# Altium footprint library lib_mechanical.PcbLib: 12 footprints
Each footprint in its own frame and in the unit in brackets; x right, y up, seen from the top. Pads: shape width x height; smd on the part's side, far side on the other; paste and mask are expansions set on the pad; w line width, h text height; cw(c..) or ccw(c..) is an arc to the next point about the centre after c.
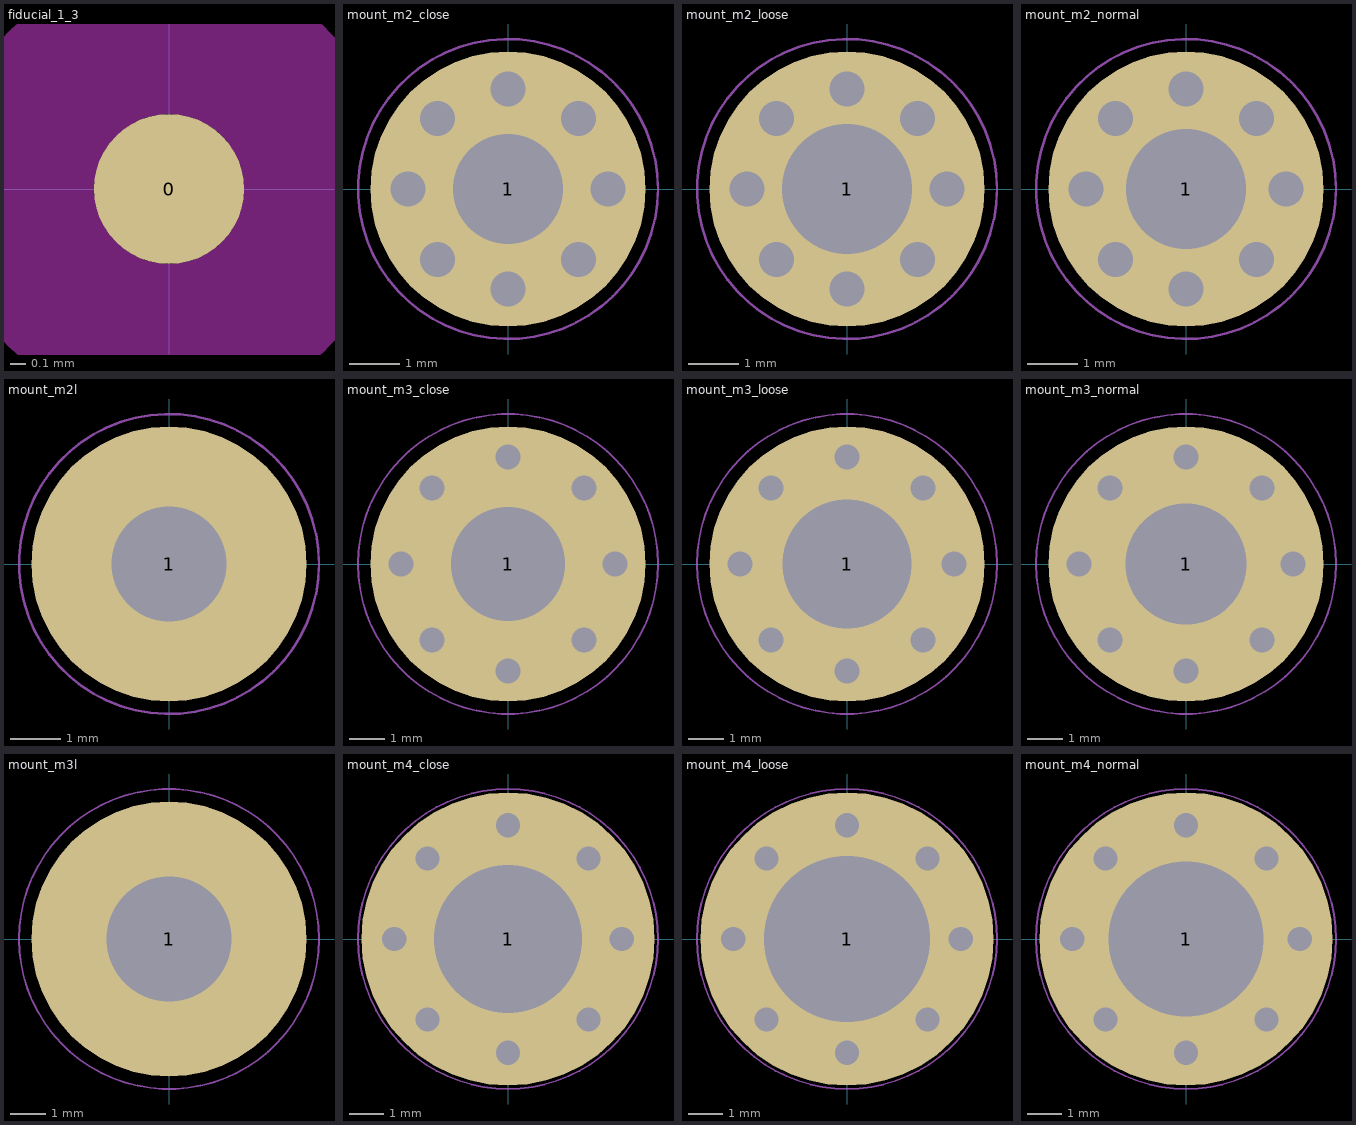
[diagram p0: the footprints below, top view; thin cyan lines are the x and y axes]

## fiducial_1_3 [mm]
pads (1):
  round 1 smd mask+1: 0(0,0)
Top Layer keep-out:
  circle w1: c0,0 r1

## mount_m2_close [mm]
pads (1):
  round 5.5 hole 2.2: 1(0,0)
via -1.414,-1.414 diameter 1.27 hole 0.7
via -1.414,1.414 diameter 1.27 hole 0.7
via 1.414,1.414 diameter 1.27 hole 0.7
via 1.414,-1.414 diameter 1.27 hole 0.7
via 0,-2 diameter 1.27 hole 0.7
via -2,0 diameter 1.27 hole 0.7
via 0,2 diameter 1.27 hole 0.7
via 2,0 diameter 1.27 hole 0.7
Mechanical 15:
  circle w0.05: c0,0 r3

## mount_m2_loose [mm]
pads (1):
  round 5.5 hole 2.6: 1(0,0)
via -1.414,-1.414 diameter 1.27 hole 0.7
via -1.414,1.414 diameter 1.27 hole 0.7
via 1.414,1.414 diameter 1.27 hole 0.7
via 1.414,-1.414 diameter 1.27 hole 0.7
via 0,-2 diameter 1.27 hole 0.7
via -2,0 diameter 1.27 hole 0.7
via 0,2 diameter 1.27 hole 0.7
via 2,0 diameter 1.27 hole 0.7
Mechanical 15:
  circle w0.05: c0,0 r3

## mount_m2_normal [mm]
pads (1):
  round 5.5 hole 2.4: 1(0,0)
via -1.414,-1.414 diameter 1.27 hole 0.7
via -1.414,1.414 diameter 1.27 hole 0.7
via 1.414,1.414 diameter 1.27 hole 0.7
via 1.414,-1.414 diameter 1.27 hole 0.7
via 0,-2 diameter 1.27 hole 0.7
via -2,0 diameter 1.27 hole 0.7
via 0,2 diameter 1.27 hole 0.7
via 2,0 diameter 1.27 hole 0.7
Mechanical 15:
  circle w0.05: c0,0 r3

## mount_m2l [mm] "M2, washer, loose fit"
pads (1):
  round 5.5 hole 2.3: 1(0,0)
Mechanical 15:
  circle w0.05: c0,0 r3

## mount_m3_close [mm]
pads (1):
  round 7.7 hole 3.2: 1(0,0)
via 2.121,-2.121 diameter 1.27 hole 0.7
via -2.121,-2.121 diameter 1.27 hole 0.7
via -2.121,2.121 diameter 1.27 hole 0.7
via 2.121,2.121 diameter 1.27 hole 0.7
via 3,0 diameter 1.27 hole 0.7
via 0,-3 diameter 1.27 hole 0.7
via -3,0 diameter 1.27 hole 0.7
via 0,3 diameter 1.27 hole 0.7
Mechanical 15:
  circle w0.05: c0,0 r4.2

## mount_m3_loose [mm]
pads (1):
  round 7.7 hole 3.6: 1(0,0)
via 0,3 diameter 1.27 hole 0.7
via -3,0 diameter 1.27 hole 0.7
via 0,-3 diameter 1.27 hole 0.7
via 3,0 diameter 1.27 hole 0.7
via 2.121,2.121 diameter 1.27 hole 0.7
via -2.121,2.121 diameter 1.27 hole 0.7
via -2.121,-2.121 diameter 1.27 hole 0.7
via 2.121,-2.121 diameter 1.27 hole 0.7
Mechanical 15:
  circle w0.05: c0,0 r4.2

## mount_m3_normal [mm]
pads (1):
  round 7.7 hole 3.4: 1(0,0)
via 0,3 diameter 1.27 hole 0.7
via -3,0 diameter 1.27 hole 0.7
via 0,-3 diameter 1.27 hole 0.7
via 3,0 diameter 1.27 hole 0.7
via 2.121,2.121 diameter 1.27 hole 0.7
via -2.121,2.121 diameter 1.27 hole 0.7
via -2.121,-2.121 diameter 1.27 hole 0.7
via 2.121,-2.121 diameter 1.27 hole 0.7
Mechanical 15:
  circle w0.05: c0,0 r4.2

## mount_m3l [mm] "M3, washer, loose fit"
pads (1):
  round 7.7 hole 3.5: 1(0,0)
Mechanical 15:
  circle w0.05: c0,0 r4.2

## mount_m4_close [mm]
pads (1):
  round 8.5 hole 4.3: 1(0,0)
via 0,3.3 diameter 1.27 hole 0.7
via 2.333,2.333 diameter 1.27 hole 0.7
via 3.3,0 diameter 1.27 hole 0.7
via 2.333,-2.333 diameter 1.27 hole 0.7
via 0,-3.3 diameter 1.27 hole 0.7
via -2.333,-2.333 diameter 1.27 hole 0.7
via -3.3,0 diameter 1.27 hole 0.7
via -2.333,2.333 diameter 1.27 hole 0.7
Mechanical 15:
  circle w0.05: c0,0 r4.35

## mount_m4_loose [mm]
pads (1):
  round 8.5 hole 4.8: 1(0,0)
via 0,3.3 diameter 1.27 hole 0.7
via 2.333,2.333 diameter 1.27 hole 0.7
via 3.3,0 diameter 1.27 hole 0.7
via 2.333,-2.333 diameter 1.27 hole 0.7
via 0,-3.3 diameter 1.27 hole 0.7
via -2.333,-2.333 diameter 1.27 hole 0.7
via -3.3,0 diameter 1.27 hole 0.7
via -2.333,2.333 diameter 1.27 hole 0.7
Mechanical 15:
  circle w0.05: c0,0 r4.35

## mount_m4_normal [mm]
pads (1):
  round 8.5 hole 4.5: 1(0,0)
via 0,3.3 diameter 1.27 hole 0.7
via 2.333,2.333 diameter 1.27 hole 0.7
via 3.3,0 diameter 1.27 hole 0.7
via 2.333,-2.333 diameter 1.27 hole 0.7
via 0,-3.3 diameter 1.27 hole 0.7
via -2.333,-2.333 diameter 1.27 hole 0.7
via -3.3,0 diameter 1.27 hole 0.7
via -2.333,2.333 diameter 1.27 hole 0.7
Mechanical 15:
  circle w0.05: c0,0 r4.35